# Altium integrated library Capacitor_0_33uF.IntLib: 1 symbol
Pins are listed as number, name and electrical type; pins without a type are passive.

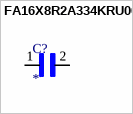
[diagram p0: symbol FA16X8R2A334KRU00]

## FA16X8R2A334KRU00
designator C?
0.33 ÂµF Â±10% 100V Ceramic Capacitor X8R Radial; MP: FA16X8R2A334KRU00; MF: TDK; Check_prices: https://www.snapeda.com/parts/FA16X8R2A334KRU00/TDK/view-part/?ref=eda; Package: Radial TDK; Value: *; SnapEDA_Link: https://www.snapeda.com/parts/FA16X8R2A334KRU00/TDK/view-part/?ref=snap; Availability: In Stock; Purchase-URL: https://pricing.snapeda.com/search/part/FA16X8R2A334KRU00/?ref=eda; Price: None
footprint CAPRB250W50L550T350H600
pins: 1, 2